# EAGLE library part LOGIC,FET_DRIVER,DUAL#1 (library QuantumOptics)
Dual FET driver such as ADP36xx, input polarity depends on device, shutdown and overtemp may or may not be present.
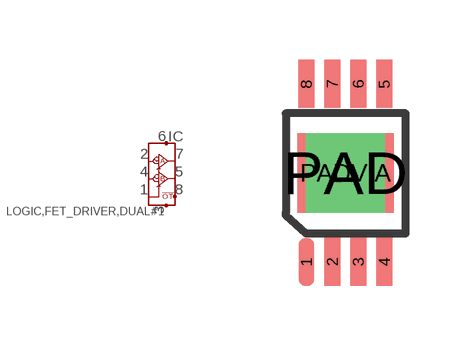
[diagram p185: symbol with the pads of MSOP8GND; footprint MSOP8GND]

Designator prefix IC

## LOGIC,FET_DRIVER,DUAL#1-MSOP8_EP  [MSOP8GND]
1  SD  in
2  INA  in
3  COM
4  INB  in
5  OUTB  out
6  VDD
7  OUTA  out
8  !OT  out

## Footprint MSOP8GND (pad centres in mm)
MSOP-8 with exposed ground, e.g. Jedec MO-187-AA-T, Hittite HMC346 or Analog Devices Mini-SO-EP package.
smd 0.4 x 1.2: 1 -0.65,-2.223; 2 0,-2.223; 3 0.65,-2.223; 4 1.3,-2.223; 5 1.3,2.223; 6 0.65,2.223; 7 0,2.223; 8 -0.65,2.223
smd 2.413 x 1.981: PAD 0.325,0
drill 1.321 square: PADVIA 0.325,0